# EAGLE library part PI6C4511 (library custom)
PI6C4511 PLL Clock Multiplier 3.3/5.0V, 2-50MHz ICLK, 5-30MHz XTAL, <200MHz OUT
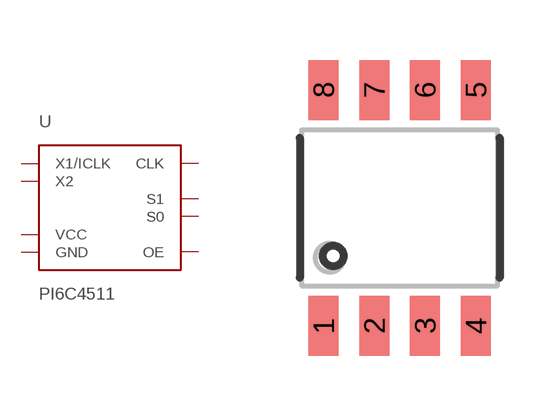
[diagram p30: symbol with the pads of 8-SOIC; footprint 8-SOIC]

Designator prefix -

## PI6C4511  [8-SOIC]
1  X1/ICLK
2  VCC
3  GND
4  S1
5  CLK
6  S0
7  OE
8  X2

## Footprint 8-SOIC (pad centres in mm)
smd 0.75 x 1.5: 1 -1.905,-2.95; 2 -0.635,-2.95; 3 0.635,-2.95; 4 1.905,-2.95; 5 1.905,2.95; 6 0.635,2.95; 7 -0.635,2.95; 8 -1.905,2.95